# Altium schematic symbol library CC2652P1FRGZR.SchLib: 1 symbol
Pins are listed as number, name and electrical type; pins without a type are passive.

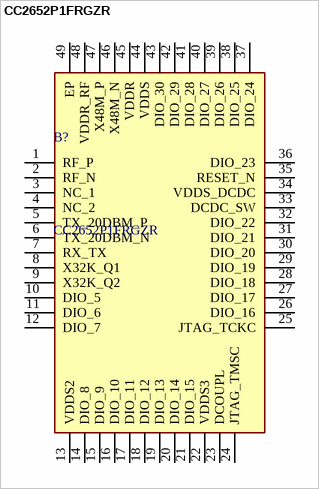
[diagram p0: symbol CC2652P1FRGZR]

## CC2652P1FRGZR
designator B?
RF Microcontrollers - MCU SimpleLink Arm Cortex-M4F multiprotocol 2.4 GHz wireless MCU with integrated power amplifier 48-VQFN -40 to 85; Manufacturer_Name: Texas Instruments; Geometry.Height: 1mm; Manufacturer_Part_Number: CC2652P1FRGZR; Mouser Part Number: 595-CC2652P1FRGZR; Mouser Price/Stock: https://www.mouser.co.uk/ProductDetail/Texas-Instruments/CC2652P1FRGZR?qs=Cb2nCFKsA8p3CBXHu0QqCg%3D%3D; Arrow Part Number: CC2652P1FRGZR; Arrow Price/Stock: https://www.arrow.com/en/products/cc2652p1frgzr/texas-instruments?utm_currency=USD&region=nac; Datasheet Link: https://www.ti.com/lit/ds/symlink/cc2652p.pdf
footprint QFN50P700X700X100-49N-D
pins: 1 RF_P, 2 RF_N, 3 NC_1, 4 NC_2, 5 TX_20DBM_P, 6 TX_20DBM_N, 7 RX_TX, 8 X32K_Q1, 9 X32K_Q2, 10 DIO_5, 11 DIO_6, 12 DIO_7, 13 VDDS2, 14 DIO_8, 15 DIO_9, 16 DIO_10, 17 DIO_11, 18 DIO_12, 19 DIO_13, 20 DIO_14, 21 DIO_15, 22 VDDS3, 23 DCOUPL, 24 JTAG_TMSC, 25 JTAG_TCKC, 26 DIO_16, 27 DIO_17, 28 DIO_18, 29 DIO_19, 30 DIO_20, 31 DIO_21, 32 DIO_22, 33 DCDC_SW, 34 VDDS_DCDC, 35 RESET_N, 36 DIO_23, 37 DIO_24, 38 DIO_25, 39 DIO_26, 40 DIO_27, 41 DIO_28, 42 DIO_29, 43 DIO_30, 44 VDDS, 45 VDDR, 46 X48M_N, 47 X48M_P, 48 VDDR_RF, 49 EP